# EAGLE library part USB_MICRO_BF_180 (library D21_v39)
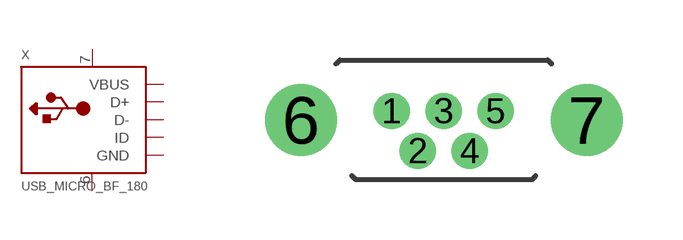
[diagram p8: symbol with the pads of USB_MICRO_180; footprint USB_MICRO_180]

Designator prefix X

## USB_MICRO_BF_180  [USB_MICRO_180]
1  VBUS  pwr
2  D-
3  D+
4  ID
5  GND  pwr
6    pas
7    pas

## Footprint USB_MICRO_180 (pad centres in mm)
drill 0.4 pad 0.7: 1 -1.302,0.218; 2 -0.652,-0.782; 3 -0.002,0.218; 4 0.648,-0.782; 5 1.298,0.218
drill 1.2: 6 -3.577,-0.002; 7 3.573,-0.002